# EAGLE library part MT8816_2 (library ic)
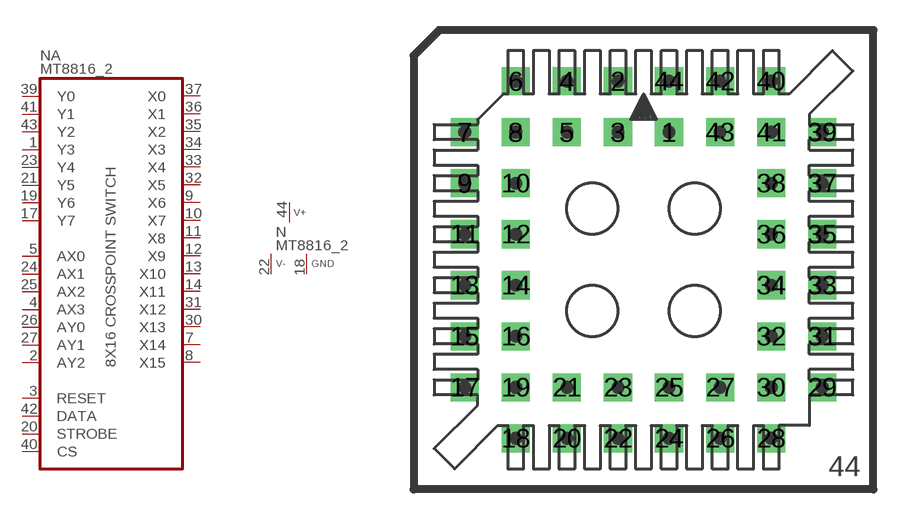
[diagram p35: symbol with the pads of PLCC44; footprint PLCC44]

Designator prefix N; gates A=MT8816 P=V+-GND

## MT8816_2  [PLCC44]
1  A:Y3
2  A:AY2  in
3  A:RESET  in
4  A:AX3  in
5  A:AX0  in
7  A:X14
8  A:X15
9  A:X6
10  A:X7
11  A:X8
12  A:X9
13  A:X10
14  A:X11
17  A:Y7
18  P:GND  pwr
19  A:Y6
20  A:STROBE  in
21  A:Y5
22  P:V-  pwr
23  A:Y4
24  A:AX1  in
25  A:AX2  in
26  A:AY0  in
27  A:AY1  in
30  A:X13
31  A:X12
32  A:X5
33  A:X4
34  A:X3
35  A:X2
36  A:X1
37  A:X0
39  A:Y0
40  A:CS  in
41  A:Y1
42  A:DATA  in
43  A:Y2
44  P:V+  pwr

## Footprint PLCC44 (pad centres in mm)
drill 0.813 pad 1.397 square: 1 1.27,6.35; 2 -1.27,8.89; 3 -1.27,6.35; 4 -3.81,8.89; 5 -3.81,6.35; 6 -6.35,8.89; 7 -8.89,6.35; 8 -6.35,6.35; 9 -8.89,3.81; 10 -6.35,3.81; 11 -8.89,1.27; 12 -6.35,1.27; 13 -8.89,-1.27; 14 -6.35,-1.27; 15 -8.89,-3.81; 16 -6.35,-3.81; 17 -8.89,-6.35; 18 -6.35,-8.89; 19 -6.35,-6.35; 20 -3.81,-8.89; 21 -3.81,-6.35; 22 -1.27,-8.89; 23 -1.27,-6.35; 24 1.27,-8.89; 25 1.27,-6.35; 26 3.81,-8.89; 27 3.81,-6.35; 28 6.35,-8.89; 29 8.89,-6.35; 30 6.35,-6.35; 31 8.89,-3.81; 32 6.35,-3.81; 33 8.89,-1.27; 34 6.35,-1.27; 35 8.89,1.27; 36 6.35,1.27; 37 8.89,3.81; 38 6.35,3.81; 39 8.89,6.35; 40 6.35,8.89; 41 6.35,6.35; 42 3.81,8.89; 43 3.81,6.35; 44 1.27,8.89